# EAGLE library part 4PDT_RELAY_V3 (library DSDEagleLibrary)
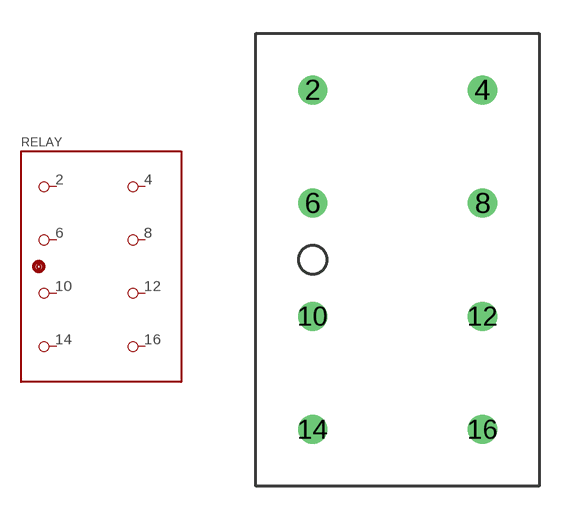
[diagram p40: symbol with the pads of 4PDT_RELAY_V3; footprint 4PDT_RELAY_V3]

Designator prefix RELAY

## 4PDT_RELAY_V3  [4PDT_RELAY_V3]
2  2
4  4
6  6
8  8
10  10
12  12
14  14
16  16

## Footprint 4PDT_RELAY_V3 (pad centres in mm)
drill 0.8: 2 2.54,17.78; 4 10.16,17.78; 6 2.54,12.7; 8 10.16,12.7; 10 2.54,7.62; 12 10.16,7.62; 14 2.54,2.54; 16 10.16,2.54